# EAGLE library part CONN_M2_BKEY_67P (library GPLIB_CONN)
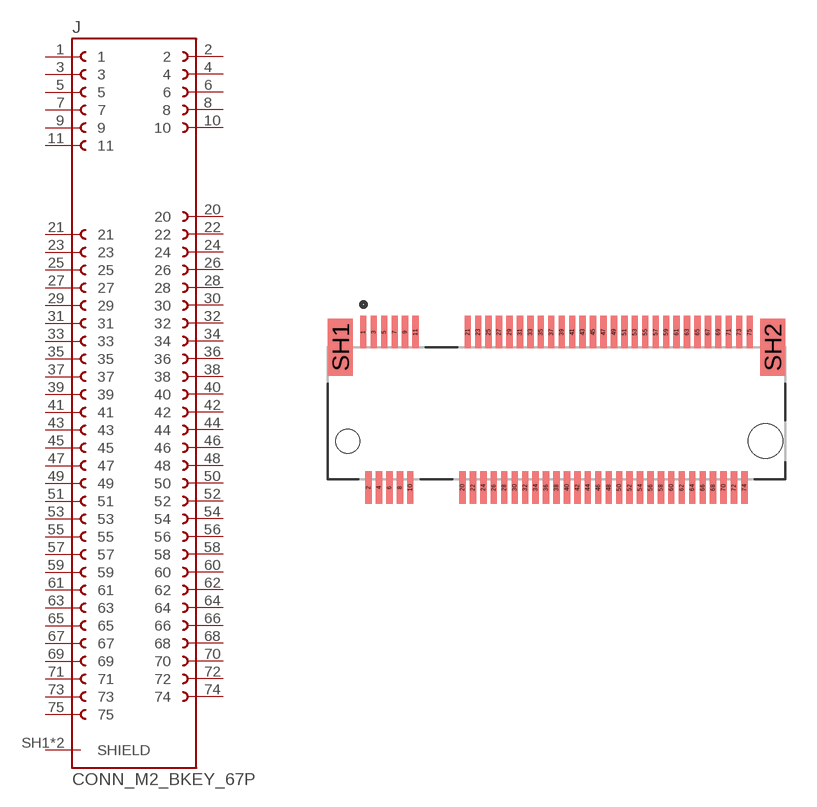
[diagram p10: symbol with the pads of CONN_M2_BKEY_67P_0.5MM_SM_RA_JAE_SM3ZS067U410ABR1000; footprint CONN_M2_BKEY_67P_0.5MM_SM_RA_JAE_SM3ZS067U410ABR1000]

Designator prefix J

## CONN_M2_BKEY_67P  [CONN_M2_BKEY_67P_0.5MM_SM_RA_JAE_SM3ZS067U410ABR1000]
1  1  pas
2  2  pas
3  3  pas
4  4  pas
5  5  pas
6  6  pas
7  7  pas
8  8  pas
9  9  pas
10  10  pas
11  11  pas
20  20  pas
21  21  pas
22  22  pas
23  23  pas
24  24  pas
25  25  pas
26  26  pas
27  27  pas
28  28  pas
29  29  pas
30  30  pas
31  31  pas
32  32  pas
33  33  pas
34  34  pas
35  35  pas
36  36  pas
37  37  pas
38  38  pas
39  39  pas
40  40  pas
41  41  pas
42  42  pas
43  43  pas
44  44  pas
45  45  pas
46  46  pas
47  47  pas
48  48  pas
49  49  pas
50  50  pas
51  51  pas
52  52  pas
53  53  pas
54  54  pas
55  55  pas
56  56  pas
57  57  pas
58  58  pas
59  59  pas
60  60  pas
61  61  pas
62  62  pas
63  63  pas
64  64  pas
65  65  pas
66  66  pas
67  67  pas
68  68  pas
69  69  pas
70  70  pas
71  71  pas
72  72  pas
73  73  pas
74  74  pas
75  75  pas
SH1  SHIELD  pas
SH2  SHIELD  pas

## Footprint CONN_M2_BKEY_67P_0.5MM_SM_RA_JAE_SM3ZS067U410ABR1000 (pad centres in mm)
smd 0.3 x 1.55: 1 -9.25,3.475; 2 -9,-3.975; 3 -8.75,3.475; 4 -8.5,-3.975; 5 -8.25,3.475; 6 -8,-3.975; 7 -7.75,3.475; 8 -7.5,-3.975; 9 -7.25,3.475; 10 -7,-3.975; 11 -6.75,3.475; 20 -4.5,-3.975; 21 -4.25,3.475; 22 -4,-3.975; 23 -3.75,3.475; 24 -3.5,-3.975; 25 -3.25,3.475; 26 -3,-3.975; 27 -2.75,3.475; 28 -2.5,-3.975; 29 -2.25,3.475; 30 -2,-3.975; 31 -1.75,3.475; 32 -1.5,-3.975; 33 -1.25,3.475; 34 -1,-3.975; 35 -0.75,3.475; 36 -0.5,-3.975; 37 -0.25,3.475; 38 0,-3.975; 39 0.25,3.475; 40 0.5,-3.975; 41 0.75,3.475; 42 1,-3.975; 43 1.25,3.475; 44 1.5,-3.975; 45 1.75,3.475; 46 2,-3.975; 47 2.25,3.475; 48 2.5,-3.975; 49 2.75,3.475; 50 3,-3.975; 51 3.25,3.475; 52 3.5,-3.975; 53 3.75,3.475; 54 4,-3.975; 55 4.25,3.475; 56 4.5,-3.975; 57 4.75,3.475; 58 5,-3.975; 59 5.25,3.475; 60 5.5,-3.975; 61 5.75,3.475; 62 6,-3.975; 63 6.25,3.475; 64 6.5,-3.975; 65 6.75,3.475; 66 7,-3.975; 67 7.25,3.475; 68 7.5,-3.975; 69 7.75,3.475; 70 8,-3.975; 71 8.25,3.475; 72 8.5,-3.975; 73 8.75,3.475; 74 9,-3.975; 75 9.25,3.475
smd 1.2 x 2.75: SH1 -10.35,2.75; SH2 10.35,2.75
hole 1.15 at -10,-1.75
hole 1.65 at 10,-1.75